# Altium schematic symbol library MMBT1815-TP.Schlib: 1 symbol
Pins are listed as number, name and electrical type; pins without a type are passive.

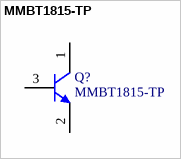
[diagram p0: symbol MMBT1815-TP]

## MMBT1815-TP
designator Q?
NPN, Collector-Emitter voltage: BVCEO=50V
pins: 1 C, 2 E, 3 B